# EAGLE library part SAMTEC-TSM-103-01-X-DV (library SAMTEC-TSM-103-01-X-DV)
Check prices <https://pricing.snapeda.com/parts/TSM-103-01-F-DV/Samtec/view-part?ref=eda>
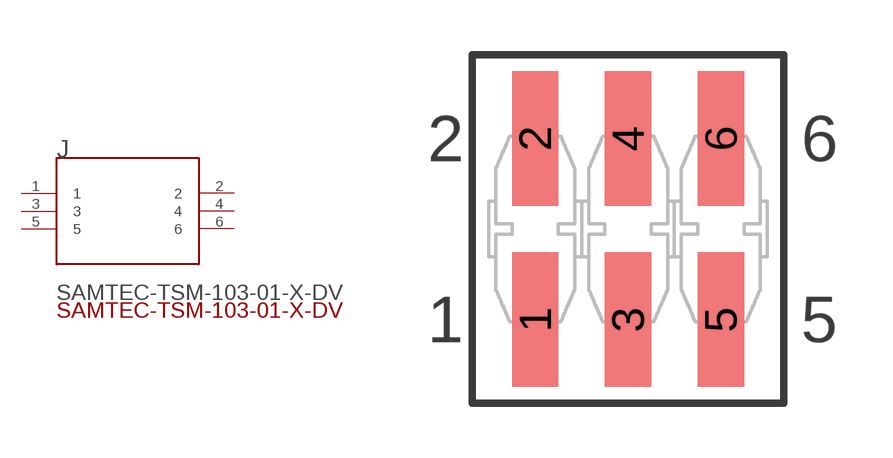
[diagram p0: symbol with the pads of SAMTEC-TSM-103-01-X-DV; footprint SAMTEC-TSM-103-01-X-DV]

Designator prefix J

## SAMTEC-TSM-103-01-X-DVJ (AVAILABILITY: Bad; DESCRIPTION: Connector Header Surface Mount 6 position 0.100 (2.54mm); MF: Samtec; MP: TSM-103-01-F-DV; PACKAGE: None; PRICE: None; PURCHASE-URL: https://pricing.snapeda.com/search/part/TSM-103-01-F-DV/?ref=eda)  [SAMTEC-TSM-103-01-X-DV]
1  1  pas
2  2  pas
3  3  pas
4  4  pas
5  5  pas
6  6  pas

## Footprint SAMTEC-TSM-103-01-X-DV (pad centres in mm)
translated Allegro footprint
smd 1.27 x 3.68: 1 -2.54,-2.476; 2 -2.54,2.476; 3 0,-2.476; 4 0,2.476; 5 2.54,-2.476; 6 2.54,2.476